# Altium footprint library BAT2.PcbLib: 1 footprints
Each footprint in its own frame and in the unit in brackets; x right, y up, seen from the top. Pads: shape width x height; smd on the part's side, far side on the other; paste and mask are expansions set on the pad; w line width, h text height; cw(c..) or ccw(c..) is an arc to the next point about the centre after c.
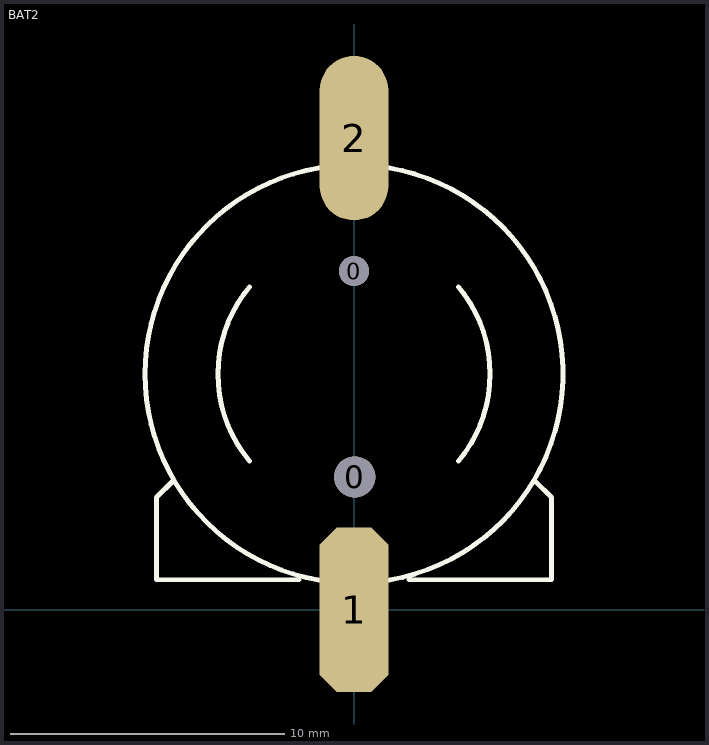
[diagram p0: the footprint, top view; thin cyan lines are the x and y axes]

## BAT2 [mm]
pads (4):
  round 1.1 hole 1.1 unplated: 0(0,12.35)
  round 1.5 hole 1.5 unplated: 0(0.025,4.85)
  oct 2.5x6 smd: 1(0,0)
  oval 2.5x6 smd: 2(0,17.2)
Top Overlay:
  lines w0.178: -6.6,4.7 -7.2,4.1 -7.2,1.1 -2,1.1 ; -3.815,5.431 cw(c0,8.6) -3.812,11.772 ; -0.833,1.026 cw(c0,8.6) -7.62,8.6 cw(c0,8.6) -0.833,16.174 ; 0.833,1.026 ccw(c0,8.6) 0.833,16.174 ; 2,1.1 7.2,1.1 7.2,4.1 6.625,4.675 ; 3.81,5.425 ccw(c0,8.6) 3.812,11.772